# Altium footprint library NEO-M8N-0.PcbLib: 1 footprints
Each footprint in its own frame and in the unit in brackets; x right, y up, seen from the top. Pads: shape width x height; smd on the part's side, far side on the other; paste and mask are expansions set on the pad; w line width, h text height; cw(c..) or ccw(c..) is an arc to the next point about the centre after c.
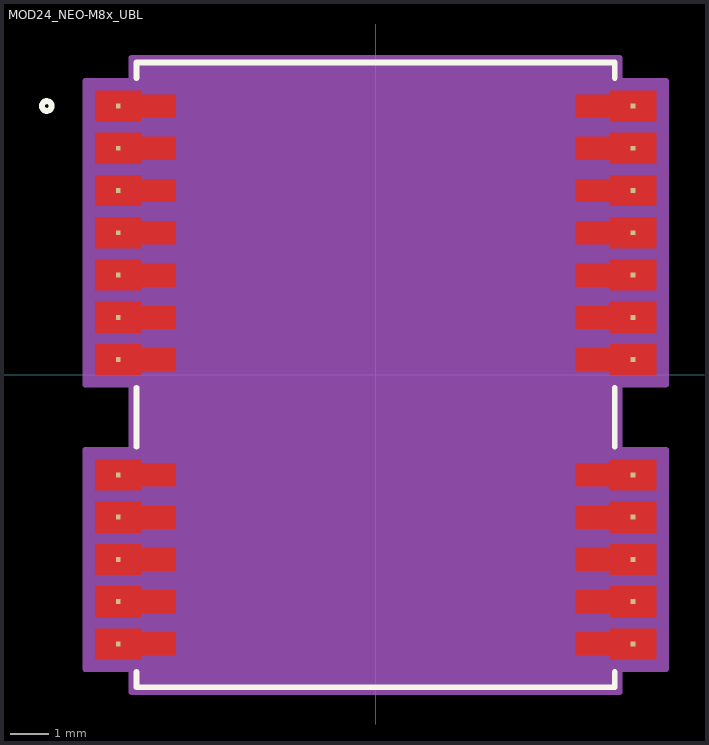
[diagram p0: the footprint, top view; thin cyan lines are the x and y axes]

## MOD24_NEO-M8x_UBL [mil]
pads (24):
  rect 5x5 smd paste-2.5 mask-2.5: 1(-263.75,275.59) 2(-263.75,232.28) 3(-263.75,188.98) 4(-263.75,145.67) 5(-263.75,102.36) 6(-263.75,59.06) 7(-263.75,15.75) 8(-263.75,-102.36) 9(-263.75,-145.67) 10(-263.75,-188.98) 11(-263.75,-232.28) 12(-263.75,-275.59) 13(263.75,-275.59) 14(263.75,-232.28) 15(263.75,-188.98) 16(263.75,-145.67) 17(263.75,-102.36) 18(263.75,15.75) 19(263.75,59.06) 20(263.75,102.36) 21(263.75,145.67) 22(263.75,188.98) 23(263.75,232.28) 24(263.75,275.59)
Top Layer:
  region: 240,287.34 204.75,287.34 204.75,263.84 240,263.84 240,259.84 287.5,259.84 287.5,291.34 240,291.34
  region: 240,244.03 204.75,244.03 204.75,220.53 240,220.53 240,216.53 287.5,216.53 287.5,248.03 240,248.03
  region: 240,200.73 204.75,200.73 204.75,177.23 240,177.23 240,173.23 287.5,173.23 287.5,204.73 240,204.73
  region: 240,157.42 204.75,157.42 204.75,133.92 240,133.92 240,129.92 287.5,129.92 287.5,161.42 240,161.42
  region: 240,114.11 204.75,114.11 204.75,90.61 240,90.61 240,86.61 287.5,86.61 287.5,118.11 240,118.11
  region: 240,70.81 204.75,70.81 204.75,47.31 240,47.31 240,43.31 287.5,43.31 287.5,74.81 240,74.81
  region: 240,27.5 204.75,27.5 204.75,4 240,4 240,0 287.5,0 287.5,31.5 240,31.5
  region: 240,-90.61 204.75,-90.61 204.75,-114.11 240,-114.11 240,-118.11 287.5,-118.11 287.5,-86.61 240,-86.61
  region: -240,291.34 -287.5,291.34 -287.5,259.84 -240,259.84 -240,263.84 -204.75,263.84 -204.75,287.34 -240,287.34
  region: -240,248.03 -287.5,248.03 -287.5,216.53 -240,216.53 -240,220.53 -204.75,220.53 -204.75,244.03 -240,244.03
  region: -240,204.73 -287.5,204.73 -287.5,173.23 -240,173.23 -240,177.23 -204.75,177.23 -204.75,200.73 -240,200.73
  region: -240,161.42 -287.5,161.42 -287.5,129.92 -240,129.92 -240,133.92 -204.75,133.92 -204.75,157.42 -240,157.42
  region: -240,118.11 -287.5,118.11 -287.5,86.61 -240,86.61 -240,90.61 -204.75,90.61 -204.75,114.11 -240,114.11
  region: -240,74.81 -287.5,74.81 -287.5,43.31 -240,43.31 -240,47.31 -204.75,47.31 -204.75,70.81 -240,70.81
  region: -240,31.5 -287.5,31.5 -287.5,0 -240,0 -240,4 -204.75,4 -204.75,27.5 -240,27.5
  region: -240,-86.61 -287.5,-86.61 -287.5,-118.11 -240,-118.11 -240,-114.11 -204.75,-114.11 -204.75,-90.61 -240,-90.61
  region: -240,-129.92 -287.5,-129.92 -287.5,-161.42 -240,-161.42 -240,-157.42 -204.75,-157.42 -204.75,-133.92 -240,-133.92
  region: -240,-173.23 -287.5,-173.23 -287.5,-204.73 -240,-204.73 -240,-200.73 -204.75,-200.73 -204.75,-177.23 -240,-177.23
  region: -240,-216.53 -287.5,-216.53 -287.5,-248.03 -240,-248.03 -240,-244.03 -204.75,-244.03 -204.75,-220.53 -240,-220.53
  region: -240,-259.84 -287.5,-259.84 -287.5,-291.34 -240,-291.34 -240,-287.34 -204.75,-287.34 -204.75,-263.84 -240,-263.84
  region: 240,-263.84 204.75,-263.84 204.75,-287.34 240,-287.34 240,-291.34 287.5,-291.34 287.5,-259.84 240,-259.84
  region: 240,-220.53 204.75,-220.53 204.75,-244.03 240,-244.03 240,-248.03 287.5,-248.03 287.5,-216.53 240,-216.53
  region: 240,-177.23 204.75,-177.23 204.75,-200.73 240,-200.73 240,-204.73 287.5,-204.73 287.5,-173.23 240,-173.23
  region: 240,-133.92 204.75,-133.92 204.75,-157.42 240,-157.42 240,-161.42 287.5,-161.42 287.5,-129.92 240,-129.92
Top Overlay:
  circle w6: c-336.9,275.59 r5
  lines w6: -245,-304.44 -245,-320 245,-320 245,-304.44 ; -245,-73.51 -245,-13.1 ; -245,304.44 -245,320 245,320 245,304.44 ; 245,-73.51 245,-13.1
  text ".Designator" at -137.5,-25 h50
Top Paste:
  drawing of 24 lines, arcs and shapes, not listed
Top Solder:
  drawing of 24 lines, arcs and shapes, not listed
Mechanical 13:
  circle w1: c-240,275.59 r3
  lines w1: -12,315 ccw(c0,315) 12,315 ; -240,-315 240,-315 240,315 -240,315 -240,-315
  text ".Designator" at -137.5,-25 h50
Mechanical 15:
  region: 250,301.34 250,325 -250,325 -250,301.34 -297.5,301.34 -297.5,-10 -250,-10 -250,-76.61 -297.5,-76.61 -297.5,-301.34 -250,-301.34 -250,-325 250,-325 250,-301.34 297.5,-301.34 297.5,-76.61 250,-76.61 250,-10 297.5,-10 297.5,301.34
  lines w6: -297.5,-301.34 -297.5,-76.61 -250,-76.61 -250,-10 -297.5,-10 -297.5,301.34 -250,301.34 -250,325 250,325 250,301.34 297.5,301.34 297.5,-10 250,-10 250,-76.61 297.5,-76.61 297.5,-301.34 250,-301.34 250,-325 -250,-325 -250,-301.34 -297.5,-301.34